# Altium schematic symbol library TranFet.SchLib: 15 symbols
Pins are listed as number, name and electrical type; pins without a type are passive.

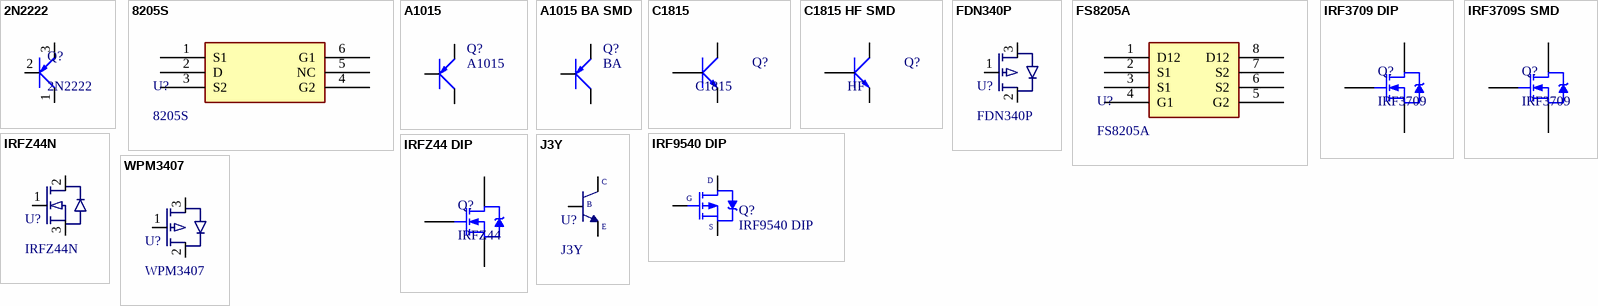
[diagram p0: symbols 2N2222 to WPM3407]

## 2N2222
designator Q?
NPN switching transistor in a TO-18 metal package.
footprint 2N2222 (NPN switching transistor in a TO-18 metal package.)
pins: 1 E, 2 B, 3 C

## 8205S
designator U?
20V DUAL N-CHANNEL MOSFET SOT-23-6; ComponentLink1Description: Datasheet; ComponentLink1URL: https://datasheet.lcsc.com/szlcsc/1911041205_TuoFeng-8205S_C436914.pdf; JLCPCB PN: C2762930
footprint 8205S (20V N-CHANNEL ENCHANCEMENT-MODE MOSFET)
pins: 1 S1, 2 D, 3 S2, 4 G2, 5 NC, 6 G1

## A1015
designator Q?
PNP 600mW, ECB; Value: A1015
footprint TO92 (TO-92)
pins: 1 E, 2 C, 3 B

## A1015 BA SMD
designator Q?, comment BA
PNP 600mW, ECB
footprint SOT23
pins: 1 B, 2 E, 3 C

## C1815
designator Q?
NPN transistor; Value: C9014
footprint TO92 (TO-92)
pins: 1 E, 2 C, 3 B

## C1815 HF SMD
designator Q?, comment HF
NPN transistor; Value: C9014
footprint SOT23
pins: 1 B, 2 E, 3 C

## FDN340P
designator U?
MOSFET SOT-23-3; JLCPCB PN: C2890122; ComponentLink1Description: Datasheet; ComponentLink1URL: https://www.onsemi.com/pdf/datasheet/fdn340p-d.pdf
footprint FDN340P
pins: 1, 2, 3

## FS8205A
designator U?
20V DUAL N-CHANNEL MOSFET TSSOP-8; ComponentLink1Description: Datasheet; ComponentLink1URL: https://www.ic-fortune.com/upload/Download/FS8205A-DS-12_EN.pdf; JLCPCB PN: C16052
footprint FS8205A (DUAL N-CHANNEL ENHACEMENT MODE POWER MOSFET)
pins: 1 D12, 2 S1, 3 S1, 4 G1, 5 G2, 6 S2, 7 S2, 8 D12

## IRF3709 DIP
designator Q?, comment IRF3709
N-Channel Power MOSFET
footprint TO220 (TO-220)
pins: 1 G, 2 D, 3 S

## IRF3709S SMD
designator Q?, comment IRF3709
N-Channel Power MOSFET
footprint D2PAK
pins: 1 G, 2 D, 3 S

## IRF9540 DIP
designator Q?
P-Channel Power MOSFET; Note: Pin 2 is electrically connected to pin 4.; Published: 8-Jun-2000; LatestRevisionDate: 17-Jul-2002; LatestRevisionNote: Re-released for DXP Platform.; DatasheetVersion: PD-9.421C; PackageVersion: Feb-1997; PackageReference: TO-220AB; Publisher: Altium Limited; PackageDescription: TO, Thru-Hole, Vertical, Heatsink Mounted; 3 In-Line Leads; Pitch 2.54 mm; ComponentLink1Description: Manufacturer Link; ComponentLink1URL: http://www.irf.com/; ComponentLink2Description: Datasheet; ComponentLink2URL: http://www.irf.com/product-info/datasheets/data/irf9540.pdf
footprint TO220 (TO-220)
pins: 1 G, 2 D, 3 S

## IRFZ44 DIP
designator Q?, comment IRFZ44
N-Channel Power MOSFET
footprint TO220 (TO-220)
pins: 1 G, 2 D, 3 S

## IRFZ44N
designator U?
55V N-CHANNEL MOSFET TO-220-3; JLCPCB PN: C2586; ComponentLink1Description: Datasheet; ComponentLink1URL: https://www.infineon.com/dgdl/Infineon-IRFZ44N-DataSheet-v01_01-EN.pdf?fileId=5546d462533600a40153563b3a9f220d
footprint IRFZ44N (TO-220)
pins: 1, 2, 3

## J3Y
designator U?
TRANSISTOR BIPOLAR (BJT) NPN 25V 500mA SOT-23-3; Digikey PN: 4518-S8050CT-ND; ComponentLink1Description: Datasheet; ComponentLink1URL: https://media.digikey.com/pdf/Data%20Sheets/UTD%20Semi%20PDFs/S8050.pdf; JLCPCB PN: C2828466
footprint J3Y
pins: 1 B, 2 E, 3 C

## WPM3407
designator U?
MOSFET 30V 4.4A SOT-23; JLCPCB PN: C2987047; ComponentLink1Description: Datasheet; ComponentLink1URL: https://datasheet.lcsc.com/lcsc/1810202308_WILLSEMI-Will-Semicon-WPM3407-3-TR_C167139.pdf
footprint WPM3407
pins: 1, 2, 3